# Altium footprint library TXS0108E_PW_20.PcbLib: 3 footprints
Each footprint in its own frame and in the unit in brackets; x right, y up, seen from the top. Pads: shape width x height; smd on the part's side, far side on the other; paste and mask are expansions set on the pad; w line width, h text height; cw(c..) or ccw(c..) is an arc to the next point about the centre after c.
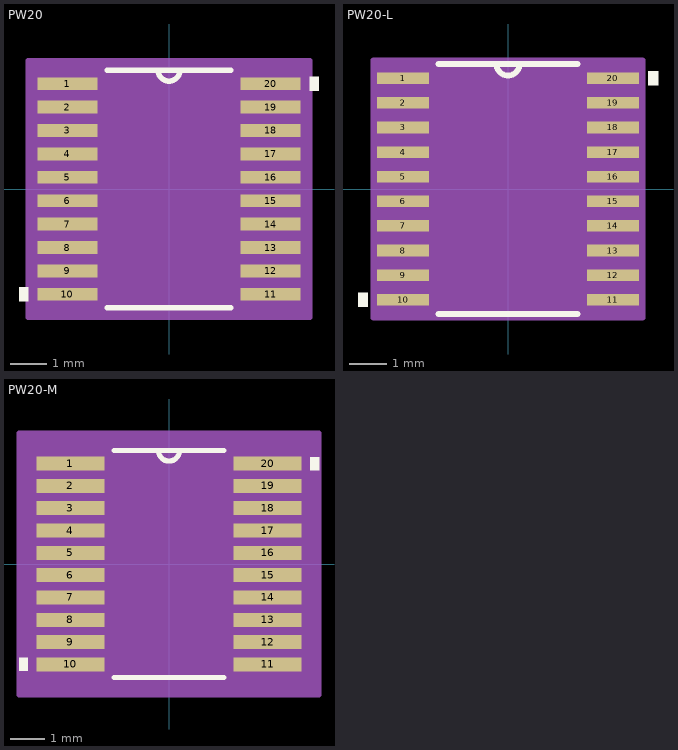
[diagram p0: the footprints below, top view; thin cyan lines are the x and y axes]

## PW20 [mil]
pads (20):
  rect 66x14 smd: 1(-111,115.16) 2(-111,89.57) 3(-111,63.98) 4(-111,38.39) 5(-111,12.8) 6(-111,-12.8) 7(-111,-38.39) 8(-111,-63.98) 9(-111,-89.57) 10(-111,-115.16) 11(111,-115.16) 12(111,-89.57) 13(111,-63.98) 14(111,-38.39) 15(111,-12.8) 16(111,12.8) 17(111,38.39) 18(111,63.98) 19(111,89.57) 20(111,115.16)
Top Overlay:
  region: -154,-107.66 -164,-107.66 -164,-122.66 -154,-122.66
  region: 154,122.66 164,122.66 164,107.66 154,107.66
  lines w6: -67.51,-130 67.51,-130 ; -67.51,130 67.51,130 ; -12,130 ccw(c0,130) 12,130
Mechanical 13:
  lines w0: -12,130 ccw(c0,130) 12,130
Mechanical 15:
  region: 154,-140 -154,-140 -154,140 154,140
  lines w6: -154,-140 -154,140 154,140 154,-140 -154,-140
3D body "PW0020A.stp": height 14.86, standoff -24.51, extent -126.38,-127.94 126.38,127.96

## PW20-L [mil]
pads (20):
  rect 54x12 smd: 1(-109,115.16) 2(-109,89.57) 3(-109,63.98) 4(-109,38.39) 5(-109,12.8) 6(-109,-12.8) 7(-109,-38.39) 8(-109,-63.98) 9(-109,-89.57) 10(-109,-115.16) 11(109,-115.16) 12(109,-89.57) 13(109,-63.98) 14(109,-38.39) 15(109,-12.8) 16(109,12.8) 17(109,38.39) 18(109,63.98) 19(109,89.57) 20(109,115.16)
Top Overlay:
  region: 146,122.66 156,122.66 156,107.66 146,107.66
  region: -146,-107.66 -156,-107.66 -156,-122.66 -146,-122.66
  lines w6: -72.33,-130 72.33,-130 ; -72.33,130 72.33,130 ; -12,130 ccw(c0,130) 12,130
Mechanical 13:
  lines w0: -12,130 ccw(c0,130) 12,130
Mechanical 15:
  region: 140,-134 -140,-134 -140,134 140,134
  lines w6: -140,-134 140,-134 140,134 -140,134 -140,-134
3D body "PW0020A.stp": height 14.86, standoff -24.51, extent -126.39,-127.95 126.38,127.96

## PW20-M [mil]
pads (20):
  rect 78x16 smd: 1(-113,115.16) 2(-113,89.57) 3(-113,63.98) 4(-113,38.39) 5(-113,12.8) 6(-113,-12.8) 7(-113,-38.39) 8(-113,-63.98) 9(-113,-89.57) 10(-113,-115.16) 11(113,-115.16) 12(113,-89.57) 13(113,-63.98) 14(113,-38.39) 15(113,-12.8) 16(113,12.8) 17(113,38.39) 18(113,63.98) 19(113,89.57) 20(113,115.16)
Top Overlay:
  region: -162,-107.66 -172,-107.66 -172,-122.66 -162,-122.66
  region: 162,122.66 172,122.66 172,107.66 162,107.66
  lines w6: -62.83,-130 62.83,-130 ; -62.83,130 62.83,130 ; -12,130 ccw(c0,130) 12,130
Mechanical 13:
  lines w0: -12,130 ccw(c0,130) 12,130
Mechanical 15:
  region: 172,-150 -172,-150 -172,150 172,150
  lines w6: -172,-150 -172,150 172,150 172,-150 -172,-150
3D body "PW0020A.stp": height 14.86, standoff -24.51, extent -126.39,-127.95 126.38,127.96